# Altium schematic symbol library AltiumDesigner.SchLib: 2 symbols
Pins are listed as number, name and electrical type; pins without a type are passive.

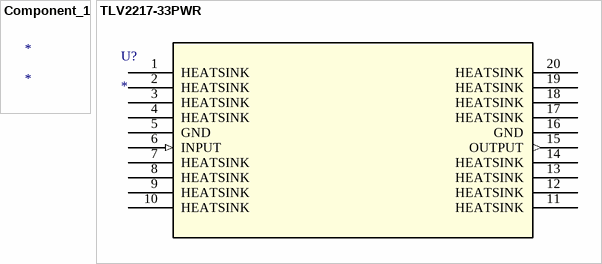
[diagram p0: symbols Component_1 to TLV2217-33PWR]

## Component_1
designator *

## TLV2217-33PWR
designator U?
Imported; Manufacturer_Part_Number: TLV2217-33PWR; Vendor: Texas Instruments; Built_By: EMA_UL_Team; C: Copyright (C) 2015 Accelerated Designs. All rights reserved; Manufacturer: Texas Instruments; RefDes: RefDes; Type: DEV; Value: Value
footprint PW20
pins: 1 HEATSINK, 2 HEATSINK, 3 HEATSINK, 4 HEATSINK, 5 GND (power), 6 INPUT (in), 7 HEATSINK, 8 HEATSINK, 9 HEATSINK, 10 HEATSINK, 11 HEATSINK, 12 HEATSINK, 13 HEATSINK, 14 HEATSINK, 15 OUTPUT (out), 16 GND (power), 17 HEATSINK, 18 HEATSINK, 19 HEATSINK, 20 HEATSINK